# EAGLE library part KAYO_LM358_LM393 (library kxnStandard_opam)
OP AMP also LM158; LM258; LM2904 COMPARE also LM393 Source: http://cache.national.com/ds/LM/LM158.pdf
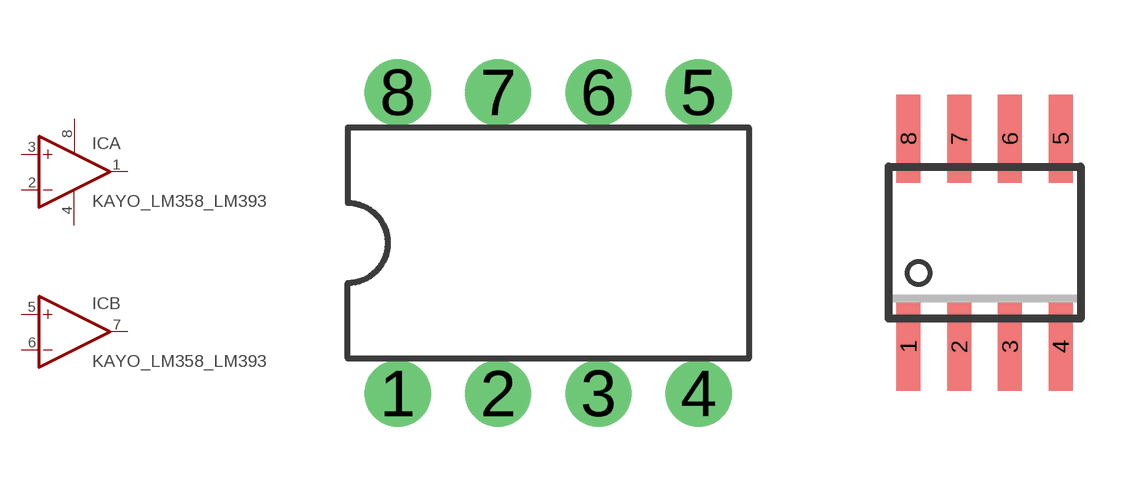
[diagram p0: symbol with the pads of DIL08; footprints DIL08, SO08]

Designator prefix IC; gates A=OPAMP B=OPAMP P=PWR+-

## KAYO_LM358_LM393N (CC_SHOP: CongCo)  [DIL08]
1  A:OUT  out
2  A:-IN  in
3  A:+IN  in
4  P:V-  pwr
5  B:+IN  in
6  B:-IN  in
7  B:OUT  out
8  P:V+  pwr

## KAYO_LM358_LM393D (CC_SHOP: CongCo)  [SO08]
Pads as for DIL08

## KAYO_LM358_LM393MX (CC_COST: 0.39; CC_ID: 547010677910; CC_SHOP: CongCo; INFO: LM393DR SOIC-8; JLC_PART_COST: 0.0708; JLC_PART_ID: C67470; JLC_PART_LINK: https://jlcpcb.com/partdetail/TexasInstruments-LM393DR/C67470; KXN_ID: SA91928802; LINK_MH: https://banlinhkien.com/lm393-sop8-p6648448.html; VALUE: LM393)  [SO08]
Pads as for DIL08

## Footprint DIL08 (pad centres in mm)
Dual In Line Package
drill 0.813 pad 1.676: 1 -3.81,-3.81; 2 -1.27,-3.81; 3 1.27,-3.81; 4 3.81,-3.81; 5 3.81,3.81; 6 1.27,3.81; 7 -1.27,3.81; 8 -3.81,3.81

## Footprint SO08 (pad centres in mm)
Small Outline Package 8 NS Package M08A
smd 0.6 x 2.2: 1 -1.905,-2.6; 2 -0.635,-2.6; 3 0.635,-2.6; 4 1.905,-2.6; 5 1.905,2.6; 6 0.635,2.6; 7 -0.635,2.6; 8 -1.905,2.6